# Altium schematic symbol library ADM3053BRWZ-REEL7.SchLib: 1 symbol
Pins are listed as number, name and electrical type; pins without a type are passive.

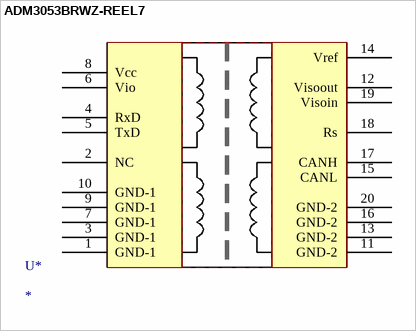
[diagram p0: symbol ADM3053BRWZ-REEL7]

## ADM3053BRWZ-REEL7
designator U*
footprint SOIC127P1030X265-20N (SOIC, 20-Leads, Body 12,80x7,50mm, Pitch 1,27mm, IPC Medium Density)
pins: 1 GND-1, 2 NC, 3 GND-1, 4 RxD, 5 TxD, 6 Vio, 7 GND-1, 8 Vcc, 9 GND-1, 10 GND-1, 11 GND-2, 12 Visoout, 13 GND-2, 14 Vref, 15 CANL, 16 GND-2, 17 CANH, 18 Rs, 19 Visoin, 20 GND-2